# Altium footprint library Capstone_Power_PCB.PcbLib: 18 footprints (part 1 of 2)
Each footprint in its own frame and in the unit in brackets; x right, y up, seen from the top. Pads: shape width x height; smd on the part's side, far side on the other; paste and mask are expansions set on the pad; w line width, h text height; cw(c..) or ccw(c..) is an arc to the next point about the centre after c.
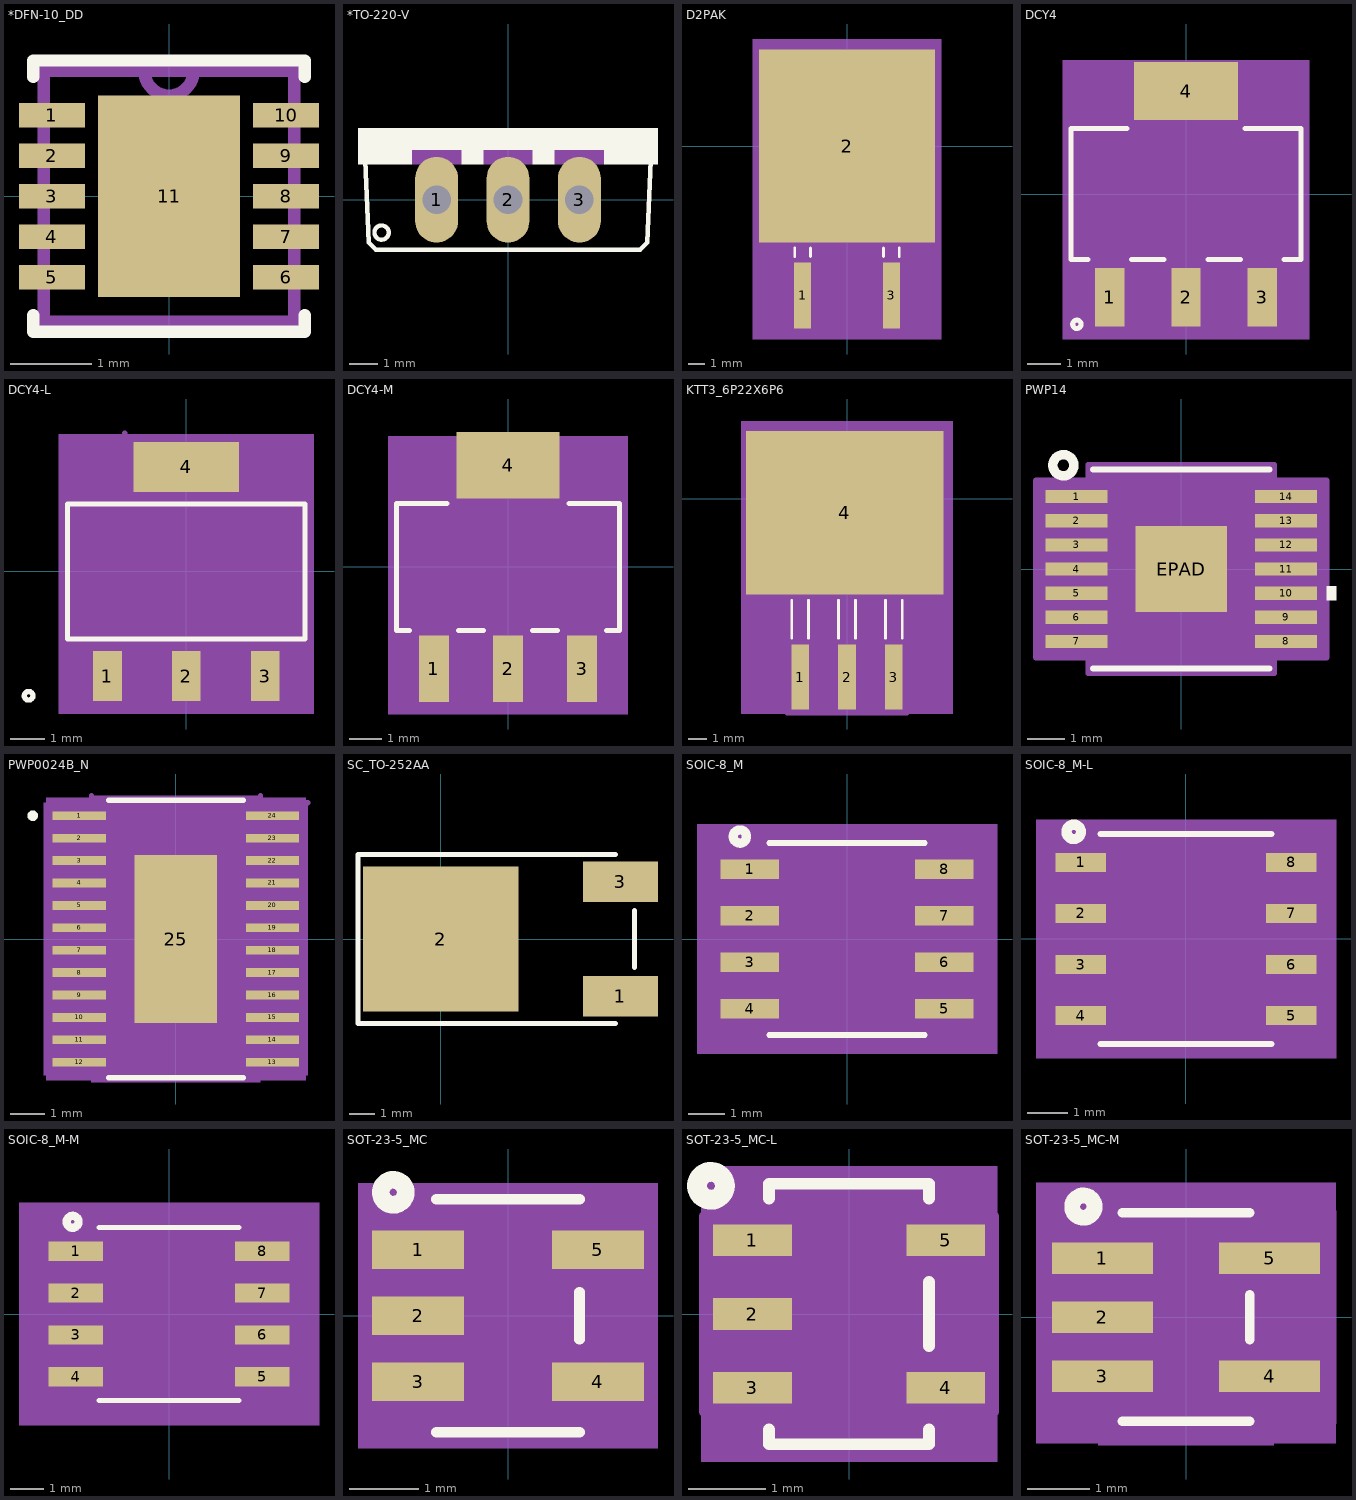
[diagram p0: the footprints below, top view; thin cyan lines are the x and y axes]

## *DFN-10_DD [mil]
pads (11):
  rect 32x12 smd: 1(-57,39.37) 2(-57,19.68) 3(-57,0) 4(-57,-19.68) 5(-57,-39.37) 6(57,-39.37) 7(57,-19.68) 8(57,0) 9(57,19.68) 10(57,39.37)
  rect 69x98 smd: 11(0,0)
Top Overlay:
  lines w6: -66,-58 -66,-66 66,-66 66,-58 ; -66,58 -66,66 66,66 66,58
Top Paste:
  region: -34.5,49 -34.5,-49 34.5,-49 34.5,49
Mechanical 13:
  lines w6: -61,-61 61,-61 ; -61,-61 -61,61 ; -61,-61 61,-61 ; -61,-61 -61,61 ; -61,61 -12,61 ; -61,61 -12,61 ; -12,61 ccw(c0,61) 12,61 ; -12,61 ccw(c0,61) 12,61 ; -12,61 12,61 ; -12,61 12,61 ; 12,61 61,61 ; 12,61 61,61 ; 61,-61 61,61 ; 61,-61 61,61

## *TO-220-V [mil]
pads (3):
  oval 60x120 hole 40: 1(-100,0) 2(0,0) 3(100,0)
Top Overlay:
  circle w6: c-177,-46 r10
  region: -210,100 210,100 210,70 -210,70
  region: -210,70 -135,70 -135,50 -210,50
  region: -65,70 -35,70 -35,50 -65,50
  region: 35,70 65,70 65,50 35,50
  region: 135,70 210,70 210,50 135,50
  lines w6: -200,55 -195,-60 -185,-70 185,-70 195,-60 200,55
Mechanical 13:
  region: -135,70 -65,70 -65,50 -135,50
  region: -35,70 35,70 35,50 -35,50
  region: 65,70 135,70 135,50 65,50
  region: -135,70 -65,70 -65,50 -135,50
  region: -35,70 35,70 35,50 -35,50
  region: 65,70 135,70 135,50 65,50

## D2PAK [mil]
pads (3):
  rect 39x154 smd: 1(-103.94,-349.5) 3(103.94,-349.5)
  rect 411x451 smd: 2(0,0)
Top Overlay:
  lines w6: -122.44,-258.5 -122.44,-238.6 ; -85.44,-258.5 -85.44,-238.6 ; 85.44,-258.5 85.44,-238.6 ; 122.44,-258.5 122.44,-238.6
Mechanical 5:
  region: -220.5,250.5 220.5,250.5 220.5,-451.5 -220.5,-451.5
Mechanical 13:
  lines w1: -27.5,-211.5 -27.5,-280.5 27.5,-280.5 27.5,-211.5 ; -204.5,-211.5 -204.5,211.5 204.5,211.5 204.5,-211.5 -204.5,-211.5 ; -122.44,-412.5 -85.44,-412.5 -85.44,-211.5 -122.44,-211.5 -122.44,-412.5 ; 85.44,-412.5 122.44,-412.5 122.44,-211.5 85.44,-211.5 85.44,-412.5
  text "*" at -116.44,-226.5 h50
Mechanical 15:
  region: -132.44,-235.5 -216.5,-235.5 -216.5,235.5 216.5,235.5 216.5,-235.5 132.44,-235.5 132.44,-436.5 75.44,-436.5 75.44,-282.5 -75.44,-282.5 -75.44,-436.5 -132.44,-436.5
  lines w6: -216.5,-235.5 -132.44,-235.5 -132.44,-436.5 -75.44,-436.5 -75.44,-282.5 75.44,-282.5 75.44,-436.5 132.44,-436.5 132.44,-235.5 216.5,-235.5 216.5,235.5 -216.5,235.5 -216.5,-235.5
3D body: height 10, standoff 0, extent 0,0 10,10
3D body "D2PAK.step": height 181.1, standoff -2.01, extent -204.48,-329.01 204.5,201.62

## DCY4 [mil]
pads (4):
  rect 35x69.5 smd paste+0 mask+0: 1(-91,-122.75) 2(0,-122.75) 3(91,-122.75)
  rect 124x69.5 smd paste+0 mask+0: 4(0,122.75)
Top Overlay:
  circle w6: c-130,-155 r5
  lines w6: -116.96,-78 -137,-78 -137,78 -70.46,78 ; -65.04,-78 -25.96,-78 ; 25.96,-78 65.04,-78 ; 70.46,78 137,78 137,-78 116.96,-78
Mechanical 5:
  region: -147,159.5 147,159.5 147,-172.5 -147,-172.5
Mechanical 13:
  circle w0: c-122,-63 r5
  lines w1: -132,-73 -132,73 132,73 132,-73 -132,-73 ; -107.5,-143.5 -74.5,-143.5 -74.5,-73 -107.5,-73 -107.5,-143.5 ; -61,73 -61,143.5 61,143.5 61,73 -61,73 ; -16.5,-143.5 16.5,-143.5 16.5,-73 -16.5,-73 -16.5,-143.5 ; 74.5,-143.5 107.5,-143.5 107.5,-73 74.5,-73 74.5,-143.5
Mechanical 15:
  lines w6: -71,83 -142,83 -142,-83 -117.5,-83 -117.5,-167.5 117.5,-167.5 117.5,-83 142,-83 142,83 71,83
3D body: height 10, standoff 0, extent 0,0 10,10
3D body "DCY4.step": height 67.09, standoff 0, extent -132,-143.5 132.01,143.51

## DCY4-L [mil]
pads (4):
  rect 33x57.5 smd paste+0 mask+0: 1(-91,-120.75) 2(0,-120.75) 3(91,-120.75)
  rect 122x57.5 smd paste+0 mask+0: 4(0,120.75)
Top Overlay:
  circle w6: c-182,-143.5 r5
  lines w6: -137,-78 137,-78 137,78 -137,78 -137,-78
Mechanical 5:
  region: -147,158.5 147,158.5 147,-164.5 -147,-164.5
Mechanical 13:
  circle w0: c-122,-63 r5
  lines w1: -107.5,-143.5 -107.5,-73 -74.5,-73 -74.5,-143.5 ; -16.5,-143.5 -16.5,-73 16.5,-73 16.5,-143.5 ; 74.5,-143.5 74.5,-73 107.5,-73 107.5,-143.5 ; -132,-73 132,-73 132,73 -132,73 -132,-73 ; -61,73 61,73 61,143.5 -61,143.5 -61,73
Mechanical 15:
  lines w6: -117.5,-159.5 -117.5,-83 -142,-83 -142,83 -71,83 -71,159.5 ; 71,83 142,83 142,-83 117.5,-83 117.5,-159.5
3D body: height 10, standoff 0, extent 0,0 10,10
3D body "DCY4-L.step": height 67.09, standoff 0, extent -132,-143.5 132.01,143.51

## DCY4-M [mil]
pads (4):
  rect 37x81.5 smd paste+0 mask+0: 1(-91,-124.75) 2(0,-124.75) 3(91,-124.75)
  rect 126x81.5 smd paste+0 mask+0: 4(0,124.75)
Top Overlay:
  lines w6: -121.15,-78 -137,-78 -137,78 -74.65,78 ; -60.85,-78 -30.15,-78 ; 30.15,-78 60.85,-78 ; 74.65,78 137,78 137,-78 121.15,-78
Mechanical 5:
  region: -147,160.5 147,160.5 147,-180.5 -147,-180.5
Mechanical 13:
  circle w0: c-122,-63 r5
  lines w1: -132,-73 132,-73 132,73 -132,73 -132,-73 ; -107.5,-143.5 -107.5,-73 -74.5,-73 -74.5,-143.5 -107.5,-143.5 ; -61,73 61,73 61,143.5 -61,143.5 -61,73 ; -16.5,-143.5 -16.5,-73 16.5,-73 16.5,-143.5 -16.5,-143.5 ; 74.5,-143.5 74.5,-73 107.5,-73 107.5,-143.5 74.5,-143.5
Mechanical 15:
  lines w6: -71,83 -142,83 -142,-83 -117.5,-83 -117.5,-175.5 117.5,-175.5 117.5,-83 142,-83 142,83 71,83
3D body: height 10, standoff 0, extent 0,0 10,10
3D body "DCY4-M.step": height 67.09, standoff 0, extent -132,-143.5 132.01,143.51

## KTT3_6P22X6P6 [mil]
pads (4):
  rect 38x138 smd: 1(-100,-381) 2(0,-381) 3(100,-381)
  rect 422x350 smd: 4(-5,-30)
Top Overlay:
  lines w6: -118,-298 -118,-217.1 ; -82,-298 -82,-217.1 ; -18,-298 -18,-217.1 ; 18,-298 18,-217.1 ; 82,-298 82,-217.1 ; 118,-298 118,-217.1
Mechanical 5:
  region: -226,165 226,165 226,-460 -226,-460
Mechanical 13:
  lines w1: -210,-190 -210,145 210,145 210,-190 -210,-190 ; -118,-436 -82,-436 -82,-190 -118,-190 -118,-436 ; -18,-436 18,-436 18,-190 -18,-190 -18,-436 ; 82,-436 118,-436 118,-190 82,-190 82,-436
  text "*" at -112.5,-205 h50
Mechanical 15:
  region: -129,-214 -221,-214 -221,145 221,145 221,-214 129,-214 129,-460 -129,-460
  lines w6: -221,-214 -129,-214 -129,-460 129,-460 129,-214 221,-214 221,135 -221,135 -221,-214
3D body: height 10, standoff 0, extent 0,0 10,10
3D body "KTT3_6P22X6P6.step": height 67.09, standoff -2.01, extent -210,-362.98 210,120.13

## PWP14 [mil]
pads (15):
  rect 66x14 smd: 1(-111,76.77) 2(-111,51.18) 3(-111,25.59) 4(-111,0) 5(-111,-25.59) 6(-111,-51.18) 7(-111,-76.77) 8(111,-76.77) 9(111,-51.18) 10(111,-25.59) 11(111,0) 12(111,25.59) 13(111,51.18) 14(111,76.77)
  rect 97x91 smd paste-48 mask+0: EPAD(0,0)
Top Overlay:
  circle w10: c-125,110 r11.18
  region: 154,-18.09 164,-18.09 164,-33.09 154,-33.09
  lines w6: -93.5,-105.5 93.5,-105.5 ; -93.5,105.5 93.5,105.5
Top Paste:
  region: 48.5,45.5 -48.5,45.5 -48.5,-45.5 48.5,-45.5
Mechanical 5:
  region: 105,-95 -105,-95 -105,95 105,95
Mechanical 13:
  lines w0: -12,100.5 ccw(c0,100.5) 12,100.5
  lines w1: -130,-82.77 -88.5,-82.77 -88.5,-70.77 -130,-70.77 -130,-82.77 ; -130,-57.18 -88.5,-57.18 -88.5,-45.18 -130,-45.18 -130,-57.18 ; -130,-31.59 -88.5,-31.59 -88.5,-19.59 -130,-19.59 -130,-31.59 ; -130,-6 -88.5,-6 -88.5,6 -130,6 -130,-6 ; -130,19.59 -88.5,19.59 -88.5,31.59 -130,31.59 -130,19.59 ; -130,45.18 -88.5,45.18 -88.5,57.18 -130,57.18 -130,45.18 ; -130,70.77 -88.5,70.77 -88.5,82.77 -130,82.77 -130,70.77 ; -88.5,-100.5 -88.5,100.5 88.5,100.5 88.5,-100.5 -88.5,-100.5 ; 88.5,-82.77 130,-82.77 130,-70.77 88.5,-70.77 88.5,-82.77 ; 88.5,-57.18 130,-57.18 130,-45.18 88.5,-45.18 88.5,-57.18 ; 88.5,-31.59 130,-31.59 130,-19.59 88.5,-19.59 88.5,-31.59 ; 88.5,-6 130,-6 130,6 88.5,6 88.5,-6 ; 88.5,19.59 130,19.59 130,31.59 88.5,31.59 88.5,19.59 ; 88.5,45.18 130,45.18 130,57.18 88.5,57.18 88.5,45.18 ; 88.5,70.77 130,70.77 130,82.77 88.5,82.77 88.5,70.77
  text "*" at -86,47.5 h50
Mechanical 15:
  region: -98.5,-93.77 -154,-93.77 -154,93.77 -98.5,93.77 -98.5,110.5 98.5,110.5 98.5,93.77 154,93.77 154,-93.77 98.5,-93.77 98.5,-110.5 -98.5,-110.5
  lines w6: -154,-93.77 -98.5,-93.77 -98.5,-110.5 98.5,-110.5 98.5,-93.77 154,-93.77 154,93.77 98.5,93.77 98.5,110.5 -98.5,110.5 -98.5,93.77 -154,93.77 -154,-93.77
3D body: height 10, standoff 0, extent 0,0 10,10
3D body "PWP14.step": height 47.09, standoff 0, extent -130,-101.02 130,100

## PWP0024B_N [mil]
pads (25):
  rect 61x10 smd paste+0 mask+2: 1(-110.24,140.75) 2(-110.24,115.16) 3(-110.24,89.57) 4(-110.24,63.98) 5(-110.24,38.39) 6(-110.24,12.8) 7(-110.24,-12.8) 8(-110.24,-38.39) 9(-110.24,-63.98) 10(-110.24,-89.57) 11(-110.24,-115.16) 12(-110.24,-140.75) 13(110.24,-140.75) 14(110.24,-115.16) 15(110.24,-89.57) 16(110.24,-63.98) 17(110.24,-38.39) 18(110.24,-12.8) 19(110.24,12.8) 20(110.24,38.39) 21(110.24,63.98) 22(110.24,89.57) 23(110.24,115.16) 24(110.24,140.75)
  rect 94x192 smd paste-95.5 mask+3: 25(0,0)
Top Overlay:
  circle w6: c-163.53,140.75 r3
  lines w6: -76.74,-158.5 76.74,-158.5 ; -76.74,158.5 76.74,158.5
Top Paste:
  region: 43.06,92.06 -43.06,92.06 -43.06,35.94 43.06,35.94
  region: 43.06,28.06 -43.06,28.06 -43.06,-28.06 43.06,-28.06
  region: 43.06,-35.94 -43.06,-35.94 -43.06,-92.06 43.06,-92.06
Mechanical 5:
  region: 148.24,-161 -148.24,-161 -148.24,161 148.24,161
Mechanical 13:
  circle w0: c-76.5,140.75 r3
  lines w0: -12,153.5 ccw(c0,153.5) 12,153.5
  lines w1: -86.5,-153.5 86.5,-153.5 86.5,153.5 -86.5,153.5 -86.5,-153.5
Mechanical 15:
  region: -96.5,-155.54 -150.74,-155.54 -150.74,155.54 -96.5,155.54 -96.5,163.5 96.5,163.5 96.5,155.54 150.74,155.54 150.74,-155.54 96.5,-155.54 96.5,-163.5 -96.5,-163.5
  lines w6: -96.5,155.54 -96.5,163.5 ; 96.5,163.5 96.5,155.54 150.74,155.54
Mechanical 16:
  circle w0.5: c0,-127.95 r6.25
  circle w0.5: c0,-76.77 r6.25
  circle w0.5: c0,-25.59 r6.25
  circle w0.5: c0,25.59 r6.25
  circle w0.5: c0,76.77 r6.25
  circle w0.5: c0,127.96 r6.25
  circle w0.5: c51.18,-127.95 r6.25
  circle w0.5: c51.18,-76.77 r6.25
  circle w0.5: c51.18,-25.59 r6.25
  circle w0.5: c51.18,25.59 r6.25
  circle w0.5: c51.18,76.77 r6.25
  circle w0.5: c51.18,127.96 r6.25
  circle w0.5: c-51.18,-127.95 r6.25
  circle w0.5: c-51.18,-76.77 r6.25
  circle w0.5: c-51.18,-25.59 r6.25
  circle w0.5: c-51.18,25.59 r6.25
  circle w0.5: c-51.18,76.77 r6.25
  circle w0.5: c-51.18,127.96 r6.25
3D body: height 10, standoff 0, extent 0,0 10,10

## SC_TO-252AA [mm] "D-PAK"
height 2.38
pads (3):
  rect 3x1.6 smd: 1(7.18,-2.286) 3(7.18,2.286)
  rect 6.2x5.8 smd: 2(0,0)
Top Overlay:
  lines w0.2: 6.985,-3.378 -3.302,-3.378 -3.302,3.378 6.985,3.378 ; 7.747,-1.143 7.747,1.143
3D body "User Library-TO252AA.STEP": height 2.3, standoff -0.01, extent -2.7,-3.29 7,3.29

## SOIC-8_M [mil]
pads (8):
  rect 63x21 smd: 1(-104.5,75) 2(-104.5,25) 3(-104.5,-25) 4(-104.5,-75) 5(104.5,-75) 6(104.5,-25) 7(104.5,25) 8(104.5,75)
Top Overlay:
  circle w10: c-115,110 r7.07
  lines w6: -83.5,-103 83.5,-103 ; -83.5,103 83.5,103
Mechanical 5:
  region: 161,-123 -161,-123 -161,123 161,123
Mechanical 13:
  lines w0: -12,98 ccw(c0,98) 12,98
  lines w1: -122,-84.5 -122,-65.5 -78.5,-65.5 -78.5,-84.5 -122,-84.5 ; -122,-34.5 -122,-15.5 -78.5,-15.5 -78.5,-34.5 -122,-34.5 ; -122,15.5 -122,34.5 -78.5,34.5 -78.5,15.5 -122,15.5 ; -122,65.5 -122,84.5 -78.5,84.5 -78.5,65.5 -122,65.5 ; -78.5,-98 78.5,-98 78.5,98 -78.5,98 -78.5,-98 ; 78.5,-84.5 78.5,-65.5 122,-65.5 122,-84.5 78.5,-84.5 ; 78.5,-34.5 78.5,-15.5 122,-15.5 122,-34.5 78.5,-34.5 ; 78.5,15.5 78.5,34.5 122,34.5 122,15.5 78.5,15.5 ; 78.5,65.5 78.5,84.5 122,84.5 122,65.5 78.5,65.5
  text "*" at -76,45 h50
Mechanical 15:
  region: -88.5,-95.5 -146,-95.5 -146,95.5 -88.5,95.5 -88.5,108 88.5,108 88.5,95.5 146,95.5 146,-95.5 88.5,-95.5 88.5,-108 -88.5,-108
  lines w6: -146,-95.5 -146,95.5 -88.5,95.5 -88.5,108 88.5,108 88.5,95.5 146,95.5 146,-95.5 88.5,-95.5 88.5,-108 -88.5,-108 -88.5,-95.5 -146,-95.5
3D body: height 10, standoff 0, extent 0,0 10,10
3D body "SOIC-8_M.step": height 66.1, standoff 0, extent -122,-97.99 122.01,98

## SOIC-8_M-L [mil]
pads (8):
  rect 49.5x19 smd paste+0 mask+0: 1(-103.25,75) 2(-103.25,25) 3(-103.25,-25) 4(-103.25,-75) 5(103.25,-75) 6(103.25,-25) 7(103.25,25) 8(103.25,75)
Top Overlay:
  circle w10: c-110,105 r7.07
  lines w6: -83.5,-103 83.5,-103 ; -83.5,103 83.5,103
Mechanical 5:
  region: 147,-117 -147,-117 -147,117 147,117
Mechanical 13:
  lines w0: -12,98 ccw(c0,98) 12,98
  lines w1: -122,-84.5 -122,-65.5 -78.5,-65.5 -78.5,-84.5 -122,-84.5 ; -122,-34.5 -122,-15.5 -78.5,-15.5 -78.5,-34.5 -122,-34.5 ; -122,15.5 -122,34.5 -78.5,34.5 -78.5,15.5 -122,15.5 ; -122,65.5 -122,84.5 -78.5,84.5 -78.5,65.5 -122,65.5 ; -78.5,-98 78.5,-98 78.5,98 -78.5,98 -78.5,-98 ; 78.5,-84.5 78.5,-65.5 122,-65.5 122,-84.5 78.5,-84.5 ; 78.5,-34.5 78.5,-15.5 122,-15.5 122,-34.5 78.5,-34.5 ; 78.5,15.5 78.5,34.5 122,34.5 122,15.5 78.5,15.5 ; 78.5,65.5 78.5,84.5 122,84.5 122,65.5 78.5,65.5
  text "*" at -76,45 h50
Mechanical 15:
  region: -82.5,-88.5 -132,-88.5 -132,88.5 -82.5,88.5 -82.5,102 82.5,102 82.5,88.5 132,88.5 132,-88.5 82.5,-88.5 82.5,-102 -82.5,-102
  lines w6: -132,-88.5 -132,88.5 -82.5,88.5 -82.5,102 82.5,102 82.5,88.5 132,88.5 132,-88.5 82.5,-88.5 82.5,-102 -82.5,-102 -82.5,-88.5 -132,-88.5
3D body: height 10, standoff 0, extent 0,0 10,10
3D body "SOIC-8_M-L.step": height 66.1, standoff 0, extent -122,-97.99 122.01,98

## SOIC-8_M-M [mil]
pads (8):
  rect 65.5x23 smd paste+0 mask+0: 1(-111.25,75) 2(-111.25,25) 3(-111.25,-25) 4(-111.25,-75) 5(111.25,-75) 6(111.25,-25) 7(111.25,25) 8(111.25,75)
Top Overlay:
  circle w10: c-115,110 r7.07
  lines w6: -83.5,-103 83.5,-103 ; -83.5,103 83.5,103
Mechanical 5:
  region: 179,-133 -179,-133 -179,133 179,133
Mechanical 13:
  lines w0: -12,98 ccw(c0,98) 12,98
  lines w1: -122,-84.5 -78.5,-84.5 -78.5,-65.5 -122,-65.5 -122,-84.5 ; -122,-34.5 -78.5,-34.5 -78.5,-15.5 -122,-15.5 -122,-34.5 ; -122,15.5 -78.5,15.5 -78.5,34.5 -122,34.5 -122,15.5 ; -122,65.5 -78.5,65.5 -78.5,84.5 -122,84.5 -122,65.5 ; -78.5,-98 -78.5,98 78.5,98 78.5,-98 -78.5,-98 ; 78.5,-84.5 122,-84.5 122,-65.5 78.5,-65.5 78.5,-84.5 ; 78.5,-34.5 122,-34.5 122,-15.5 78.5,-15.5 78.5,-34.5 ; 78.5,15.5 122,15.5 122,34.5 78.5,34.5 78.5,15.5 ; 78.5,65.5 122,65.5 122,84.5 78.5,84.5 78.5,65.5
  text "*" at -76,45 h50
Mechanical 15:
  region: -98.5,-106.5 -164,-106.5 -164,106.5 -98.5,106.5 -98.5,118 98.5,118 98.5,106.5 164,106.5 164,-106.5 98.5,-106.5 98.5,-118 -98.5,-118
  lines w6: -164,-106.5 -98.5,-106.5 -98.5,-118 98.5,-118 98.5,-106.5 164,-106.5 164,106.5 98.5,106.5 98.5,118 -98.5,118 -98.5,106.5 -164,106.5 -164,-106.5
3D body: height 10, standoff 0, extent 0,0 10,10
3D body "SOIC-8_M-M.step": height 66.1, standoff 0, extent -122,-97.99 122.01,98

## SOT-23-5_MC [mil]
pads (5):
  rect 52x22 smd paste+0 mask+0: 1(-51,37.4) 2(-51,0) 3(-51,-37.4) 4(51,-37.4) 5(51,37.4)
Top Overlay:
  circle w10: c-65,70 r7.07
  lines w6: -40.5,-66 40.5,-66 ; -40.5,66 40.5,66 ; 40.5,-13.3 40.5,13.3
Mechanical 5:
  region: 85,-75 -85,-75 -85,75 85,75
Mechanical 13:
  lines w0: -12,61 ccw(c0,61) 12,61
  lines w1: -63,-47.4 -63,-27.4 -35.5,-27.4 -35.5,-47.4 -63,-47.4 ; -63,-10 -63,10 -35.5,10 -35.5,-10 -63,-10 ; -63,27.4 -63,47.4 -35.5,47.4 -35.5,27.4 -63,27.4 ; -35.5,-61 35.5,-61 35.5,61 -35.5,61 -35.5,-61 ; 35.5,-47.4 35.5,-27.4 63,-27.4 63,-47.4 35.5,-47.4 ; 35.5,27.4 35.5,47.4 63,47.4 63,27.4 35.5,27.4
  text "*" at -38,16.4 h50
Mechanical 15:
  region: 45.5,-71 -45.5,-71 -45.5,-52.4 -78,-52.4 -78,52.4 -45.5,52.4 -45.5,71 45.5,71 45.5,52.4 78,52.4 78,-52.4 45.5,-52.4
  lines w6: -78,-52.4 -45.5,-52.4 -45.5,-71 45.5,-71 45.5,-52.4 78,-52.4 78,52.4 45.5,52.4 45.5,71 -45.5,71 -45.5,52.4 -78,52.4 -78,-52.4
3D body: height 10, standoff 0, extent 0,0 10,10

## SOT-23-5_MC-L [mil]
pads (5):
  rect 40x16 smd paste+0 mask+0: 1(-49,37.4) 2(-49,0) 3(-49,-37.4) 4(49,-37.4) 5(49,37.4)
Top Overlay:
  circle w10: c-70,65 r7.07
  lines w6: -40.5,-58.5 -40.5,-66 40.5,-66 40.5,-58.5 ; -40.5,58.5 -40.5,66 40.5,66 40.5,58.5 ; 40.5,-16.3 40.5,16.3
Mechanical 5:
  region: 75,-75 -75,-75 -75,75 75,75
Mechanical 13:
  lines w0: -12,61 ccw(c0,61) 12,61
  lines w1: -63,-47.4 -63,-27.4 -35.5,-27.4 -35.5,-47.4 -63,-47.4 ; -63,-10 -63,10 -35.5,10 -35.5,-10 -63,-10 ; -63,27.4 -63,47.4 -35.5,47.4 -35.5,27.4 -63,27.4 ; -35.5,-61 35.5,-61 35.5,61 -35.5,61 -35.5,-61 ; 35.5,-47.4 35.5,-27.4 63,-27.4 63,-47.4 35.5,-47.4 ; 35.5,27.4 35.5,47.4 63,47.4 63,27.4 35.5,27.4
  text "*" at -38,10.4 h50
Mechanical 15:
  region: 39.5,-65 -39.5,-65 -39.5,-49.4 -73,-49.4 -73,49.4 -39.5,49.4 -39.5,65 39.5,65 39.5,49.4 73,49.4 73,-49.4 39.5,-49.4
  lines w6: -73,-49.4 -39.5,-49.4 -39.5,-65 39.5,-65 39.5,-49.4 73,-49.4 73,49.4 39.5,49.4 39.5,65 -39.5,65 -39.5,49.4 -73,49.4 -73,-49.4
3D body: height 10, standoff 0, extent 0,0 10,10

## SOT-23-5_MC-M [mil]
pads (5):
  rect 64x20 smd paste+0 mask+0: 1(-53,37.4) 2(-53,0) 3(-53,-37.4) 4(53,-37.4) 5(53,37.4)
Top Overlay:
  circle w10: c-65,70 r7.07
  lines w6: -40.5,-66 40.5,-66 ; -40.5,66 40.5,66 ; 40.5,-14.3 40.5,14.3
Mechanical 5:
  region: 95,-80 -95,-80 -95,85 95,85
Mechanical 13:
  lines w0: -12,61 ccw(c0,61) 12,61
  lines w1: -63,-47.4 -35.5,-47.4 -35.5,-27.4 -63,-27.4 -63,-47.4 ; -63,-10 -35.5,-10 -35.5,10 -63,10 -63,-10 ; -63,27.4 -35.5,27.4 -35.5,47.4 -63,47.4 -63,27.4 ; -35.5,-61 -35.5,61 35.5,61 35.5,-61 -35.5,-61 ; 35.5,-47.4 63,-47.4 63,-27.4 35.5,-27.4 35.5,-47.4 ; 35.5,27.4 63,27.4 63,47.4 35.5,47.4 35.5,27.4
  text "*" at -38,14.4 h50
Mechanical 15:
  region: 55.5,-81 -55.5,-81 -55.5,-67.4 -95,-67.4 -95,67.4 -55.5,67.4 -55.5,81 55.5,81 55.5,67.4 95,67.4 95,-67.4 55.5,-67.4
  lines w6: -55.5,67.4 -55.5,81 55.5,81 55.5,67.4
3D body: height 10, standoff 0, extent 0,0 10,10